# EAGLE library part 100DP6T1B1M2QE (library Tubescreamer)
DPDT Switch ON-ON-ON Datasheet <https://www.mouser.com/datasheet/2/140/100-1079940.pdf>
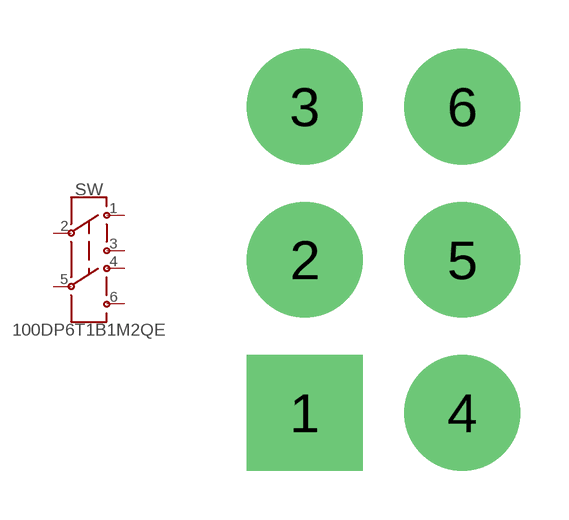
[diagram p2: symbol with the pads of 100DP6T1B1M2QE; footprint 100DP6T1B1M2QE]

Designator prefix SW

## 100DP6T1B1M2QE  [100DP6T1B1M2QE]
1  1
2  2
3  3
4  4
5  5
6  6

## Footprint 100DP6T1B1M2QE (pad centres in mm)
drill 2.54 square: 1 -2.413,-4.699
drill 2.54: 2 -2.413,0; 3 -2.413,4.699; 4 2.413,-4.699; 5 2.413,0; 6 2.413,4.699